# Altium schematic symbol library 2020-03-27_05-35-59.SchLib: 2 symbols
Pins are listed as number, name and electrical type; pins without a type are passive.

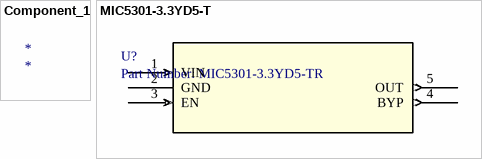
[diagram p0: symbols Component_1 to MIC5301-3.3YD5-T]

## Component_1
designator *

## MIC5301-3.3YD5-T
designator U?, comment Part Number: MIC5301-3.3YD5-TR
No Description Available; Vendor: Microchip; Built_By: EMA_Jessica; Manufacturer_Part_Number: MIC5301-3.3YD5-TR; Copyright: Copyright (C) 2018 Accelerated Designs. All rights reserved; RefDes: RefDes; Type: DEV; Value: Value
footprint TSOT-23-5_D5
pins: 1 VIN (in), 2 GND (power), 3 EN (in), 4 BYP (out), 5 OUT (out)